# EAGLE library part SN76489 (library ti-jlb)
Texas Instruments SN76489
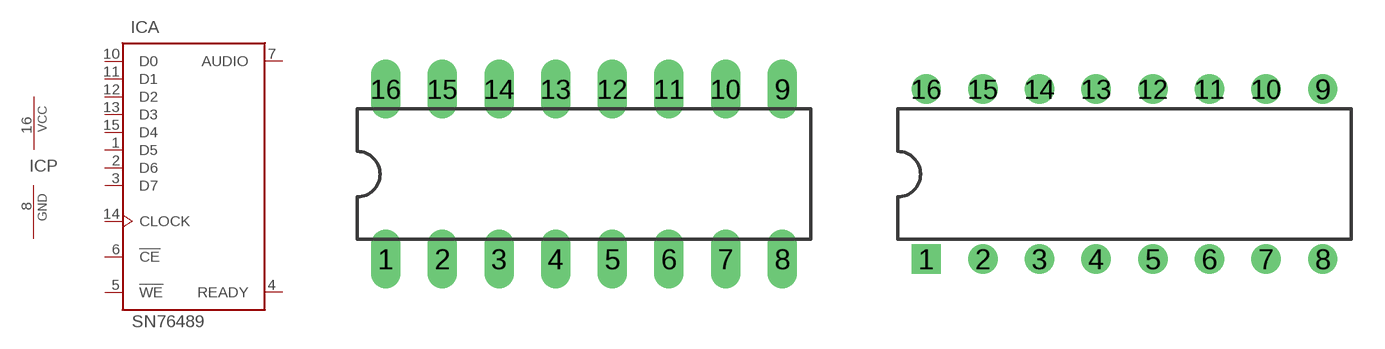
[diagram p2: symbol with the pads of DIL16; footprints DIL16, DIL16-RP]

Designator prefix IC; gates A=SN76489 P=PWRN

## SN76489  [DIL16]
1  A:D5  in
2  A:D6  in
3  A:D7  in
4  A:READY  out
5  A:!WE  in
6  A:!CE  in
7  A:AUDIO  out
8  P:GND  pwr
10  A:D0  in
11  A:D1  in
12  A:D2  in
13  A:D3  in
14  A:CLOCK  in
15  A:D4  in
16  P:VCC  pwr

## SN76489R  [DIL16-RP]
Pads as for DIL16

## Footprint DIL16 (pad centres in mm)
Dual In Line Package
drill 0.813 long: 1 -8.89,-3.81; 2 -6.35,-3.81; 3 -3.81,-3.81; 4 -1.27,-3.81; 5 1.27,-3.81; 6 3.81,-3.81; 7 6.35,-3.81; 8 8.89,-3.81; 9 8.89,3.81; 10 6.35,3.81; 11 3.81,3.81; 12 1.27,3.81; 13 -1.27,3.81; 14 -3.81,3.81; 15 -6.35,3.81; 16 -8.89,3.81

## Footprint DIL16-RP (pad centres in mm)
drill 0.813 square: 1 -8.89,-3.81
drill 0.813: 2 -6.35,-3.81; 3 -3.81,-3.81; 4 -1.27,-3.81; 5 1.27,-3.81; 6 3.81,-3.81; 7 6.35,-3.81; 8 8.89,-3.81; 9 8.89,3.81; 10 6.35,3.81; 11 3.81,3.81; 12 1.27,3.81; 13 -1.27,3.81; 14 -3.81,3.81; 15 -6.35,3.81; 16 -8.89,3.81